# EAGLE library part LM301ADG (library ON Semiconductor_By_element14_Batch_1)
Non Compensated Single Operational Amplifiers
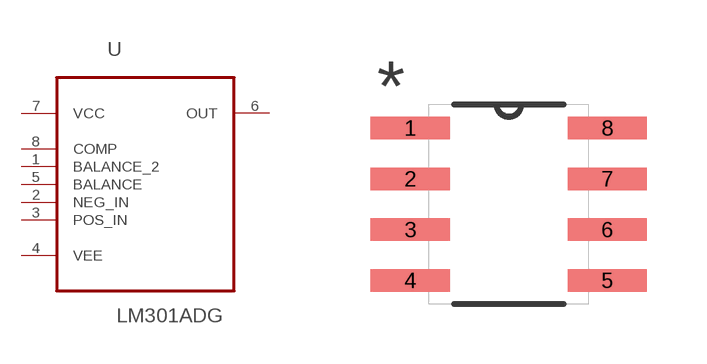
[diagram p49: symbol with the pads of SOIC127P600X175-8N; footprint SOIC127P600X175-8N]

Designator prefix U

## LM301ADG (MPN: LM301ADG; OC_FARNELL: 1426351; OC_NEWARK: 45J0731; PACKAGE: SOIC-8; SUPPLIER: Onsemiconductor)  [SOIC127P600X175-8N]
1  BALANCE_2  in
2  NEG_IN  in
3  POS_IN  in
4  VEE  pwr
5  BALANCE  in
6  OUT  out
7  VCC  pwr
8  COMP  in

## Footprint SOIC127P600X175-8N (pad centres in mm)
smd 1.981 x 0.559: 1 -2.464,1.905; 2 -2.464,0.635; 3 -2.464,-0.635; 4 -2.464,-1.905; 5 2.464,-1.905; 6 2.464,-0.635; 7 2.464,0.635; 8 2.464,1.905